# Altium schematic symbol library Schlib1.SchLib: 7 symbols
Pins are listed as number, name and electrical type; pins without a type are passive.

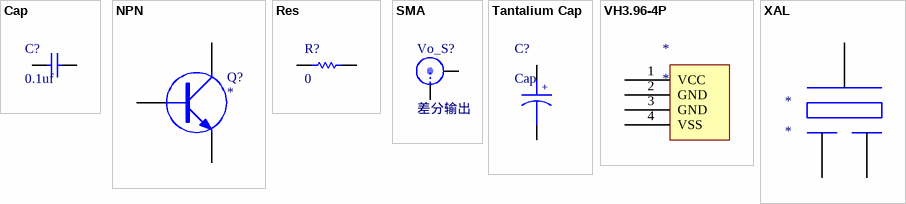
[diagram p0: symbols Cap to XAL]

## Cap
designator C?, comment 0.1uf
footprint 0805
footprint 0603C
pins: 1, 2

## NPN
designator Q?
NPN Transistor
footprint TO-92
pins: 1 C, 2 B, 3 E

## Res
designator R?, comment 0
footprint 0805
footprint 0603R
pins: 1, 2

## SMA
designator Vo_S?, comment 差分输出
footprint SMA-LYING
footprint SMA-STAND
pins: 0, 1

## Tantalium Cap
designator C?, comment Cap
footprint 7343C-TYPE_D
pins: 1, 2
text: +

## VH3.96-4P
designator *
footprint VH3.96-4P
pins: 1 VCC, 2 GND, 3 GND, 4 VSS

## XAL
designator *
footprint DIP-3P
pins: 1, 2, 3